# EAGLE library part OPA2134 (library microphone)
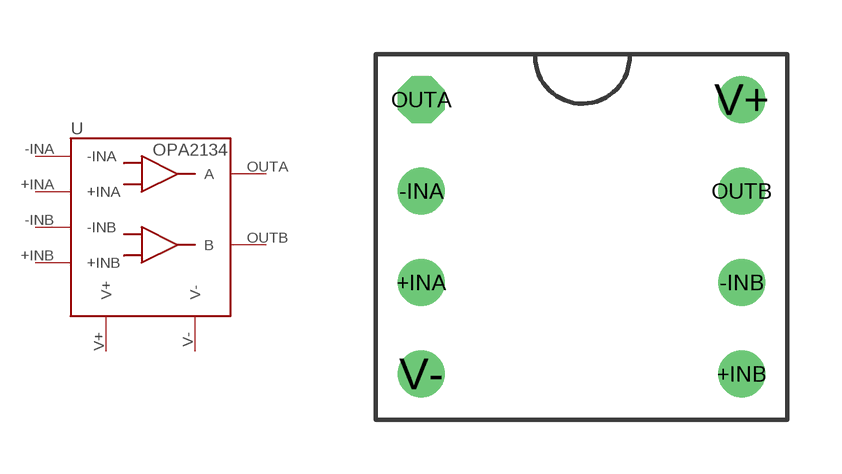
[diagram p0: symbol with the pads of DIP-8; footprint DIP-8]

Designator prefix -

## OPA2134  [DIP-8]
+INA  +INA
+INB  +INB
-INA  -INA
-INB  -INB
OUTA  A
OUTB  B
V+  V+
V-  V-

## Footprint DIP-8 (pad centres in mm)
drill 0.8: +INA 0,-5.08; +INB 8.89,-7.62; -INA 0,-2.54; -INB 8.89,-5.08; OUTB 8.89,-2.54; V+ 8.89,0; V- 0,-7.62
drill 0.8 octagon: OUTA 0,0